# Altium footprint library Panasonic_H13_Package.PcbLib: 1 footprints
Each footprint in its own frame and in the unit in brackets; x right, y up, seen from the top. Pads: shape width x height; smd on the part's side, far side on the other; paste and mask are expansions set on the pad; w line width, h text height; cw(c..) or ccw(c..) is an arc to the next point about the centre after c.
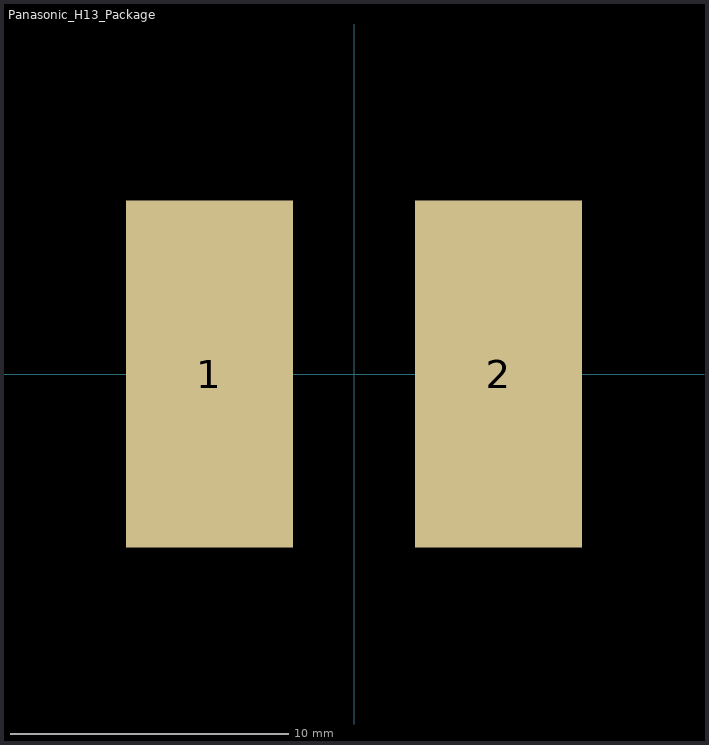
[diagram p0: the footprint, top view; thin cyan lines are the x and y axes]

## Panasonic_H13_Package [mm]
pads (2):
  rect 6x12.5 smd: 1(-5.2,0) 2(5.2,0)
Bottom Overlay:
  lines w0.254: -7,-7 5,-7 7,-5 7,5 5,7 -7,7 -7,-7